# Altium schematic symbol library MQ-2.SchLib: 2 symbols
Pins are listed as number, name and electrical type; pins without a type are passive.

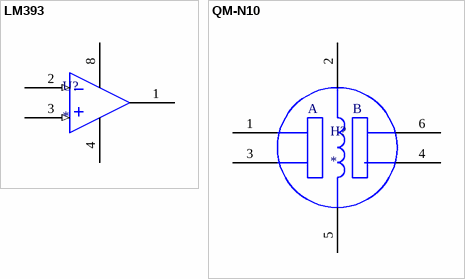
[diagram p0: symbols LM393 to QM-N10]

## LM393
designator U?
pins: 1  , 2   (in), 3   (in), 4  , 8  

## QM-N10
designator H?
pins: 1, 2, 3, 4  , 5  , 6  
text: A; B